# EAGLE library part EC11E15244B2 (library tecsmith_keyboards)
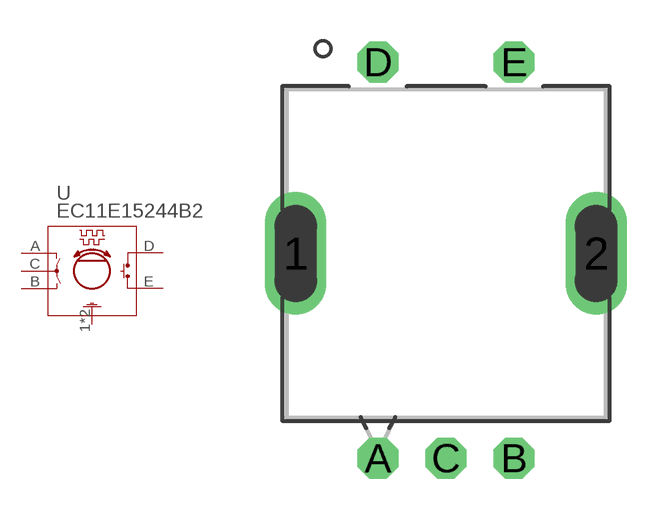
[diagram p4: symbol with the pads of ROTARY_EC11E; footprint ROTARY_EC11E]

Designator prefix U

## EC11E15244B2  [ROTARY_EC11E]
1  GND  pas
2  GND  pas
A  A  pas
B  B  pas
C  C  pas
D  D  pas
E  E  pas

## Footprint ROTARY_EC11E (pad centres in mm)
drill 1.5 pad 2 long: 1 -5.5,0; 2 5.5,0
drill 0.991 pad 1.499 octagon: A -2.489,-7.493; B 2.489,-7.493; C 0,-7.493; D -2.489,7.01; E 2.489,7.01
hole 1.5 at -5.5,1
hole 1.5 at -5.5,-1
hole 1.5 at 5.5,1
hole 1.5 at 5.5,-1